# Altium footprint library ERJ-2GEJ473X.PcbLib: 3 footprints
Each footprint in its own frame and in the unit in brackets; x right, y up, seen from the top. Pads: shape width x height; smd on the part's side, far side on the other; paste and mask are expansions set on the pad; w line width, h text height; cw(c..) or ccw(c..) is an arc to the next point about the centre after c.
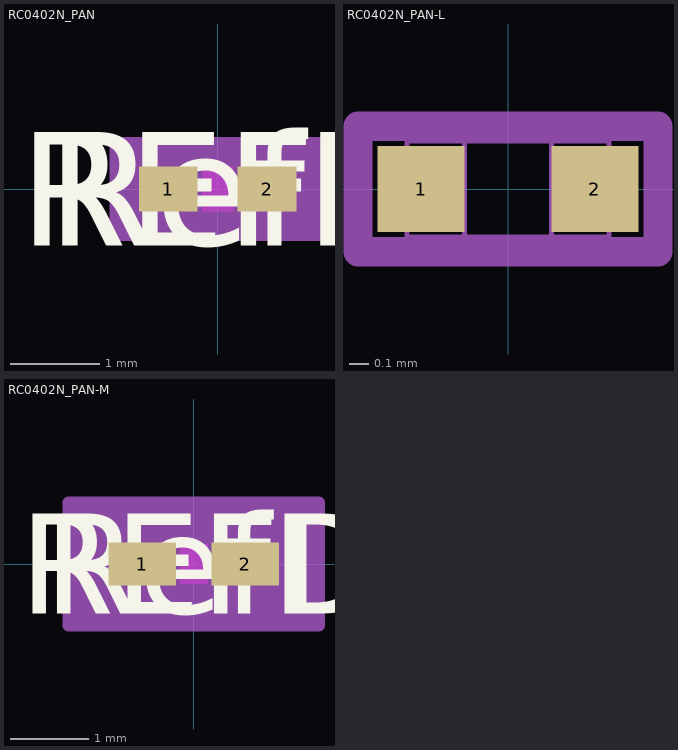
[diagram p0: the footprints below, top view; thin cyan lines are the x and y axes]

## RC0402N_PAN [mm]
pads (2):
  rect 0.656x0.5 smd paste+0 mask+0: 1(-0.553,0) 2(0.553,0)
Top Layer keep-out:
  region: -0.174,-0.199 -0.174,0.199 0.174,0.199 0.174,-0.199
Top Overlay:
  text "RefDes" at -1.905,-0.635 h1.27
  text "REFDES" at -2.222,-0.635 h1.27
Keep-Out Layer:
  region: -0.174,-0.25 -0.174,0.25 0.174,0.25 0.174,-0.25
Mechanical 13:
  lines w0.025: -0.525,-0.25 -0.525,0.25 ; -0.525,-0.25 -0.225,-0.25 -0.225,0.25 -0.525,0.25 ; -0.525,-0.25 0.525,-0.25 ; -0.525,-0.25 -0.525,0.25 ; -0.525,0.25 0.525,0.25 ; 0.525,-0.25 0.225,-0.25 0.225,0.25 0.525,0.25 ; 0.525,-0.25 0.525,0.25 ; 0.525,-0.25 0.525,0.25
  text "RefDes2" at -2.222,-0.635 h1.27
Mechanical 15:
  region: 1.135,-0.504 -1.135,-0.504 -1.135,0.504 1.135,0.504
  lines w0.152: -1.135,-0.504 -1.135,0.504 1.135,0.504 1.135,-0.504 -1.135,-0.504
3D body "RC0402N_PAN.step": height 0.71, standoff 0, extent -0.525,-0.25 0.525,0.25

## RC0402N_PAN-L [mm]
pads (2):
  rect 0.452x0.449 smd paste+0 mask+0: 1(-0.451,0) 2(0.451,0)
Mechanical 13:
  lines w0.025: -0.525,-0.25 -0.525,0.25 ; -0.525,-0.25 0.525,-0.25 ; -0.525,-0.25 -0.225,-0.25 -0.225,0.25 -0.525,0.25 ; -0.525,-0.25 -0.525,0.25 ; -0.525,0.25 0.525,0.25 ; 0.525,-0.25 0.525,0.25 ; 0.525,-0.25 0.525,0.25 ; 0.525,-0.25 0.225,-0.25 0.225,0.25 0.525,0.25
Mechanical 15:
  lines w0.152: -0.779,-0.326 0.779,-0.326 0.779,0.326 -0.779,0.326 -0.779,-0.326
3D body "RC0402N_PAN.step": height 0.71, standoff 0, extent -0.525,-0.25 0.525,0.25

## RC0402N_PAN-M [mm]
pads (2):
  rect 0.859x0.551 smd paste+0 mask+0: 1(-0.654,0) 2(0.654,0)
Top Layer keep-out:
  region: -0.174,-0.199 -0.174,0.199 0.174,0.199 0.174,-0.199
Top Overlay:
  text "REFDES" at -2.222,-0.635 h1.27
  text "RefDes" at -1.905,-0.635 h1.27
Keep-Out Layer:
  region: -0.174,-0.25 -0.174,0.25 0.174,0.25 0.174,-0.25
Mechanical 13:
  lines w0.025: -0.525,-0.25 -0.525,0.25 ; -0.525,-0.25 0.525,-0.25 ; -0.525,-0.25 -0.225,-0.25 -0.225,0.25 -0.525,0.25 ; -0.525,-0.25 -0.525,0.25 ; -0.525,0.25 0.525,0.25 ; 0.525,-0.25 0.525,0.25 ; 0.525,-0.25 0.525,0.25 ; 0.525,-0.25 0.225,-0.25 0.225,0.25 0.525,0.25
  text "RefDes2" at -2.222,-0.635 h1.27
Mechanical 15:
  region: 1.592,-0.783 -1.592,-0.783 -1.592,0.783 1.592,0.783
  lines w0.152: -1.592,-0.783 1.592,-0.783 1.592,0.783 -1.592,0.783 -1.592,-0.783
3D body "RC0402N_PAN.step": height 0.71, standoff 0, extent -0.525,-0.25 0.525,0.25